# EAGLE library part SENSOR_MPL115A2 (library akita)
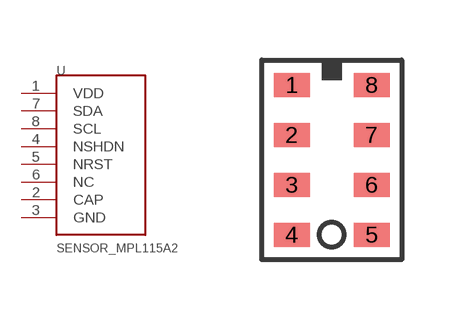
[diagram p31: symbol with the pads of LGA8; footprint LGA8]

Designator prefix -

## SENSOR_MPL115A2  [LGA8]
1  VDD
2  CAP
3  GND
4  NSHDN
5  NRST
6  NC
7  SDA
8  SCL

## Footprint LGA8 (pad centres in mm)
smd 0.9 x 0.6: 1 -2.5,2.5; 2 -2.5,1.25; 3 -2.5,0; 4 -2.5,-1.25; 5 -0.5,-1.25; 6 -0.5,0; 7 -0.5,1.25; 8 -0.5,2.5